# Altium footprint library INF-SOD323_V.PcbLib: 1 footprints
Each footprint in its own frame and in the unit in brackets; x right, y up, seen from the top. Pads: shape width x height; smd on the part's side, far side on the other; paste and mask are expansions set on the pad; w line width, h text height; cw(c..) or ccw(c..) is an arc to the next point about the centre after c.
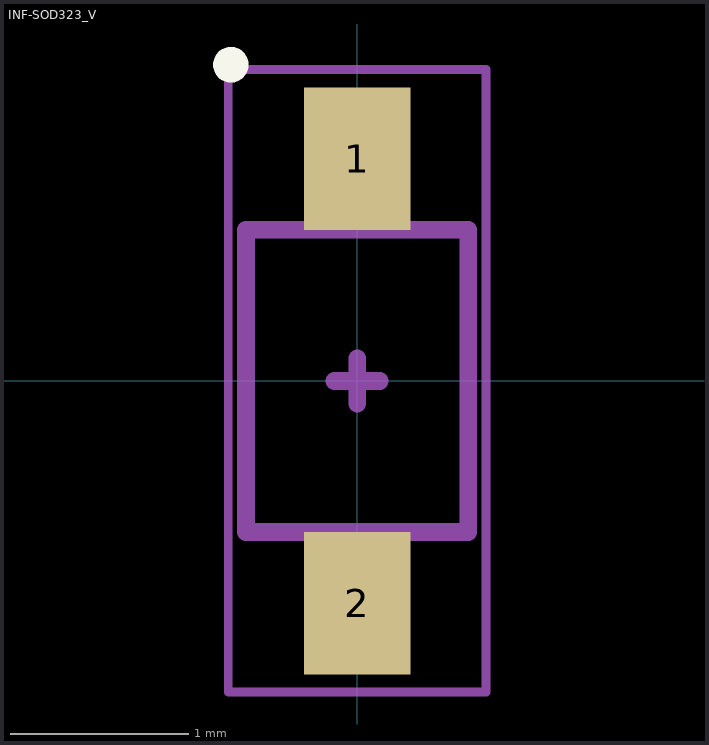
[diagram p0: the footprint, top view; thin cyan lines are the x and y axes]

## INF-SOD323_V [mm] "SOD, 2-Leads, Body 1.7x1.25 mm"
height 1.1
pads (2):
  rect 0.6x0.8 smd: 1(0,1.25) 2(0,-1.25)
Top Overlay:
  circle w0.1: c-0.71,1.778 r0.05
Mechanical 13:
  lines w0.1: -0.625,-0.85 0.625,-0.85 0.625,0.85 -0.625,0.85 -0.625,-0.85
Mechanical 15:
  lines w0.05: -0.725,-1.75 0.725,-1.75 0.725,1.75 -0.725,1.75 -0.725,-1.75
  lines w0.1: -0.127,0 0.127,0 ; 0,-0.127 0,0.127
3D body: height 1.1, standoff 0, extent -0.625,-0.85 0.625,0.85